# Altium footprint library 2-61304011121-7.PcbLib: 1 footprints
Each footprint in its own frame and in the unit in brackets; x right, y up, seen from the top. Pads: shape width x height; smd on the part's side, far side on the other; paste and mask are expansions set on the pad; w line width, h text height; cw(c..) or ccw(c..) is an arc to the next point about the centre after c.
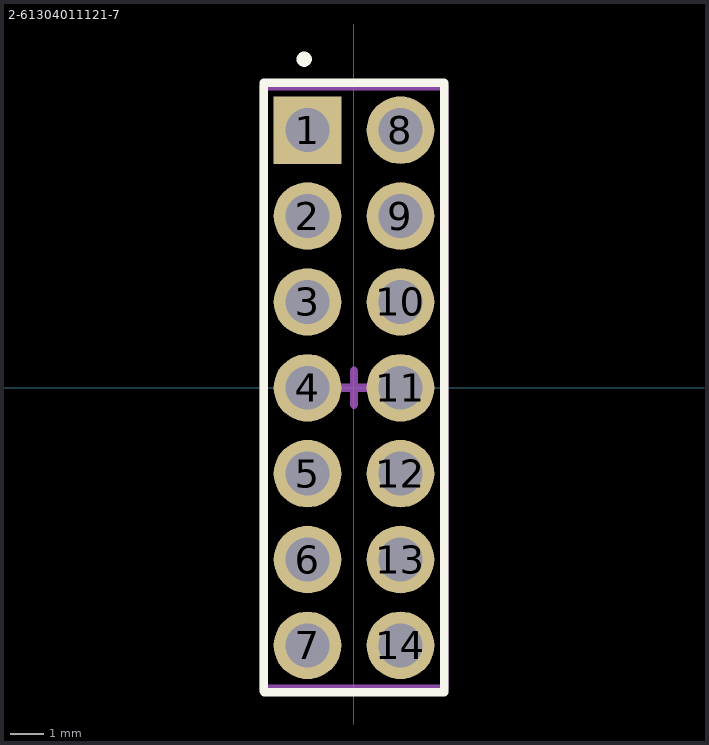
[diagram p0: the footprint, top view; thin cyan lines are the x and y axes]

## 2-61304011121-7 [mm]
pads (14):
  rect 2x2 hole 1.3 mask+0.051: 1(-1.375,7.62)
  round 2 hole 1.3 mask+0.051: 2(-1.375,5.08) 3(-1.375,2.54) 4(-1.375,0) 5(-1.375,-2.54) 6(-1.375,-5.08) 7(-1.375,-7.62) 8(1.375,7.62) 9(1.375,5.08) 10(1.375,2.54) 11(1.375,0) 12(1.375,-2.54) 13(1.375,-5.08) 14(1.375,-7.62)
Top Overlay:
  circle w0.254: c-1.475,9.72 r0.1
  lines w0.25: -2.65,-9.005 2.675,-9.005
  lines w0.254: -2.675,-8.98 -2.675,9.02 2.675,9.02 2.675,-9.005
Mechanical 13:
  lines w0.25: -2.675,-8.905 2.675,-8.905
  lines w0.254: -2.675,-8.905 -2.675,8.92 2.675,8.92 2.675,-8.905
Mechanical 15:
  lines w0.25: -0.5,0 0,0 ; 0,-0.5 0,0 ; 0,0.5 0,0 ; 0.5,0 0,0
3D body "61304011121-7.stp": height 7.27, standoff -4.27, extent 0.105,-8.89 2.645,8.89
3D body "61304011121-7.stp": height 7.27, standoff -4.27, extent -2.645,-8.89 -0.105,8.89